# Altium footprint library 108CKR050M.PcbLib: 1 footprints
Each footprint in its own frame and in the unit in brackets; x right, y up, seen from the top. Pads: shape width x height; smd on the part's side, far side on the other; paste and mask are expansions set on the pad; w line width, h text height; cw(c..) or ccw(c..) is an arc to the next point about the centre after c.
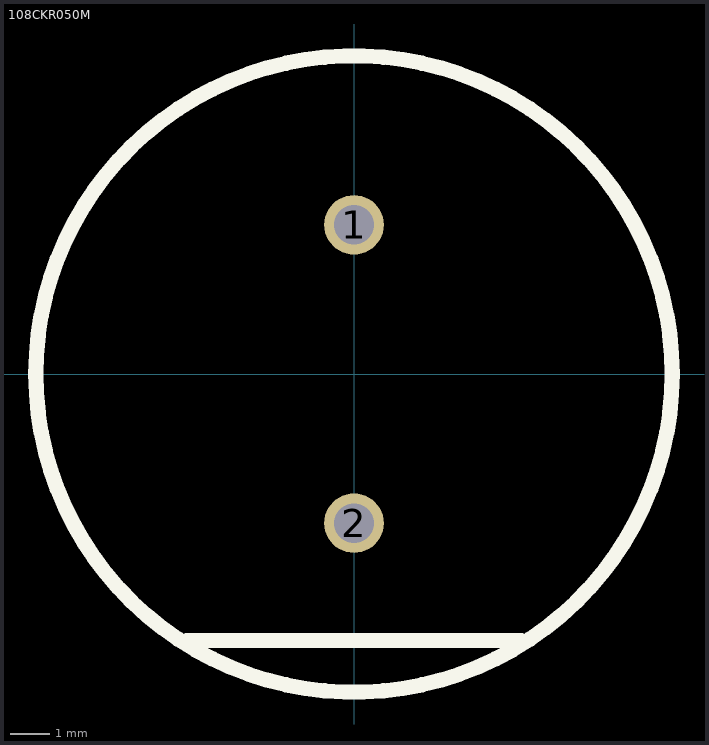
[diagram p0: the footprint, top view; thin cyan lines are the x and y axes]

## 108CKR050M [mm]
pads (2):
  round 1.5 hole 1: 1(0,3.75) 2(0,-3.75)
Top Overlay:
  circle w0.381: c0,0 r8
  lines w0.381: -4.2,-6.7 4.2,-6.7